# Altium footprint library PCB - CONNECTOR - MOLEX - MOLEX 0532610371.PcbLib: 1 footprints
Each footprint in its own frame and in the unit in brackets; x right, y up, seen from the top. Pads: shape width x height; smd on the part's side, far side on the other; paste and mask are expansions set on the pad; w line width, h text height; cw(c..) or ccw(c..) is an arc to the next point about the centre after c.
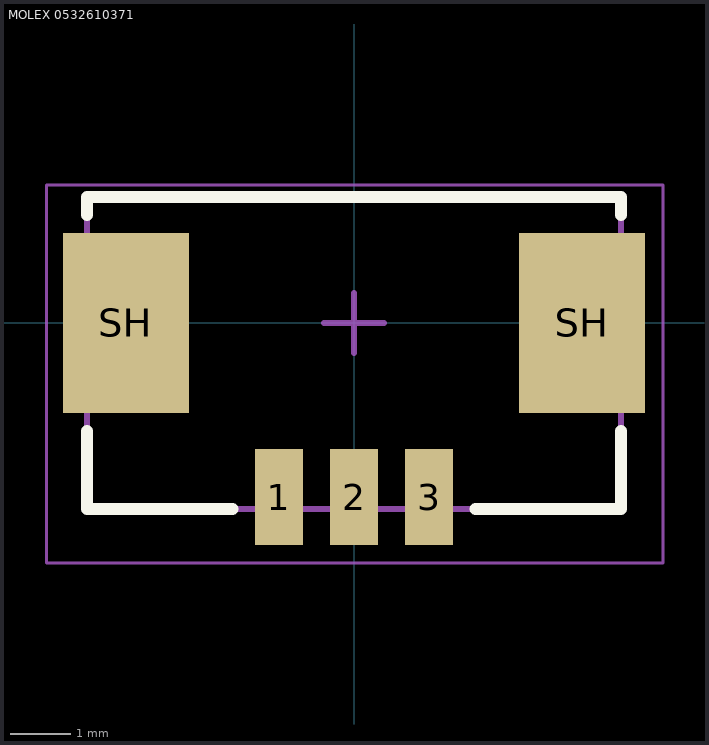
[diagram p0: the footprint, top view; thin cyan lines are the x and y axes]

## MOLEX 0532610371 [mm] "Connector Header Surface Mount, Right Angle 3 position, 1.25mm Pitch, 8.90x4.20 mm Body"
height 3.4
pads (5):
  rect 0.8x1.6 smd: 1(-1.25,-2.9) 2(0,-2.9) 3(1.25,-2.9)
  rect 2.1x3 smd: SH(-3.8,0) SH(3.8,0)
Top Overlay:
  lines w0.2: -4.45,-1.8 -4.45,-3.1 -2.025,-3.1 ; -4.45,1.8 -4.45,2.1 4.45,2.1 4.45,1.8 ; 2.025,-3.1 4.45,-3.1 4.45,-1.8
Mechanical 13:
  lines w0.1: -4.45,-3.1 4.45,-3.1 4.45,2.1 -4.45,2.1 -4.45,-3.1
Mechanical 15 (Mech15):
  lines w0.05: -5.125,-4 5.15,-4 5.15,2.3 -5.125,2.3 -5.125,-4
  lines w0.1: -0.5,0 0,0 ; 0,-0.5 0,0 ; 0,0.5 0,0 ; 0.5,0 0,0
3D body: height 3.4, standoff 0, extent -4.45,-3.1 4.45,2.1